# Altium footprint library Tesla_Coil_Parts.PcbLib: 5 footprints
Each footprint in its own frame and in the unit in brackets; x right, y up, seen from the top. Pads: shape width x height; smd on the part's side, far side on the other; paste and mask are expansions set on the pad; w line width, h text height; cw(c..) or ccw(c..) is an arc to the next point about the centre after c.
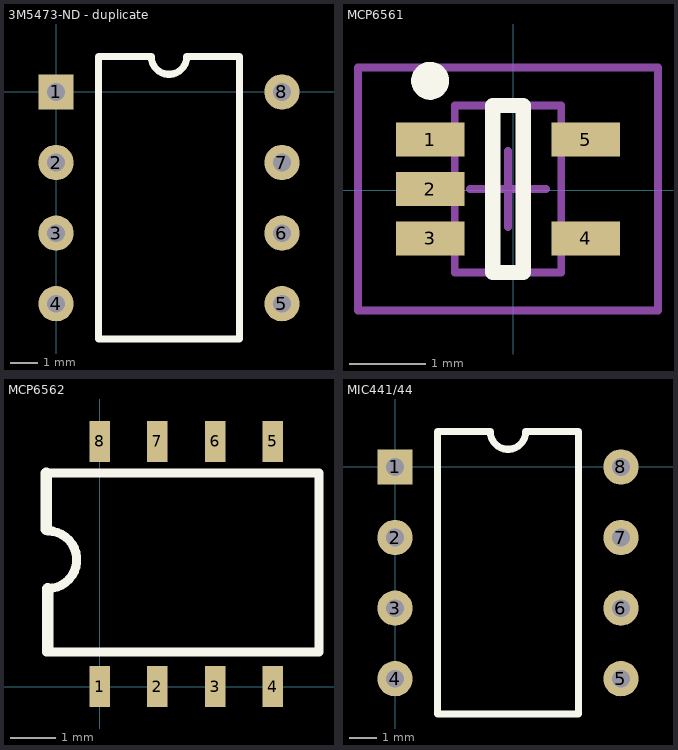
[diagram p0: the footprints below, top view; thin cyan lines are the x and y axes]

## 1-1623849-0 [mil]
via 0,0 diameter 39.37 hole 31.5
via 98.43,0 diameter 39.37 hole 31.5
via 196.85,0 diameter 39.37 hole 31.5

## 3M5473-ND - duplicate [mil]
pads (8):
  rect 50x50 hole 25: 1(0,0)
  round 50 hole 25: 2(0,-100) 3(0,-200) 4(0,-300) 5(320,-300) 6(320,-200) 7(320,-100) 8(320,0)
Top Overlay:
  lines w10: 60,-350 260,-350 260,50 185,50 cw(c160,50) 135,50 60,50 60,-350

## MCP6561 [mm] "1.8V Output Comparator"
height 0.028
pads (5):
  rect 0.9x0.45 smd: 1(-1.091,0.665) 2(-1.091,0.015) 3(-1.091,-0.635) 4(0.959,-0.635) 5(0.959,0.665)
Top Overlay:
  circle w0.25: c-1.091,1.44 r0.125
  lines w0.2: -0.266,-1.085 0.134,-1.085 0.134,1.115 -0.266,1.115 -0.266,-1.085
Mechanical 13:
  lines w0.1: -0.766,-1.085 -0.766,1.115 0.634,1.115 0.634,-1.085 -0.766,-1.085
Mechanical 15:
  lines w0.1: -0.566,0.015 0.434,0.015 ; -0.066,-0.485 -0.066,0.515 ; -2.041,-1.585 -2.041,1.615 1.909,1.615 1.909,-1.585 -2.041,-1.585
3D body: height 1.1, standoff 0, extent -0.766,-1.085 0.634,1.115

## MCP6562 [mm] "1.8V Output Comparator"
height 0.028
pads (8):
  rect 0.45x0.9 smd: 1(0,0) 2(1.27,0) 3(2.54,0) 4(3.81,0) 5(3.81,5.4) 6(2.54,5.4) 7(1.27,5.4) 8(0,5.4)
Top Overlay:
  lines w0.2: -1.174,0.762 4.826,0.762 4.826,4.662 ; -1.174,4.699 4.826,4.699 ; -1.143,2.159 ccw(c-1.143,2.794) -1.143,3.429
  lines w0.254: -1.174,3.46 -1.174,4.699 ; -1.143,0.793 -1.143,2.159

## MIC441/44 [mil]
pads (8):
  rect 50x50 hole 25: 1(0,0)
  round 50 hole 25: 2(0,-100) 3(0,-200) 4(0,-300) 5(320,-300) 6(320,-200) 7(320,-100) 8(320,0)
Top Overlay:
  lines w10: 60,-350 60,50 135,50 ccw(c160,50) 185,50 260,50 260,-350 60,-350